# Altium footprint library Connectors.PcbLib: 22 footprints (part 1 of 2)
Each footprint in its own frame and in the unit in brackets; x right, y up, seen from the top. Pads: shape width x height; smd on the part's side, far side on the other; paste and mask are expansions set on the pad; w line width, h text height; cw(c..) or ccw(c..) is an arc to the next point about the centre after c.
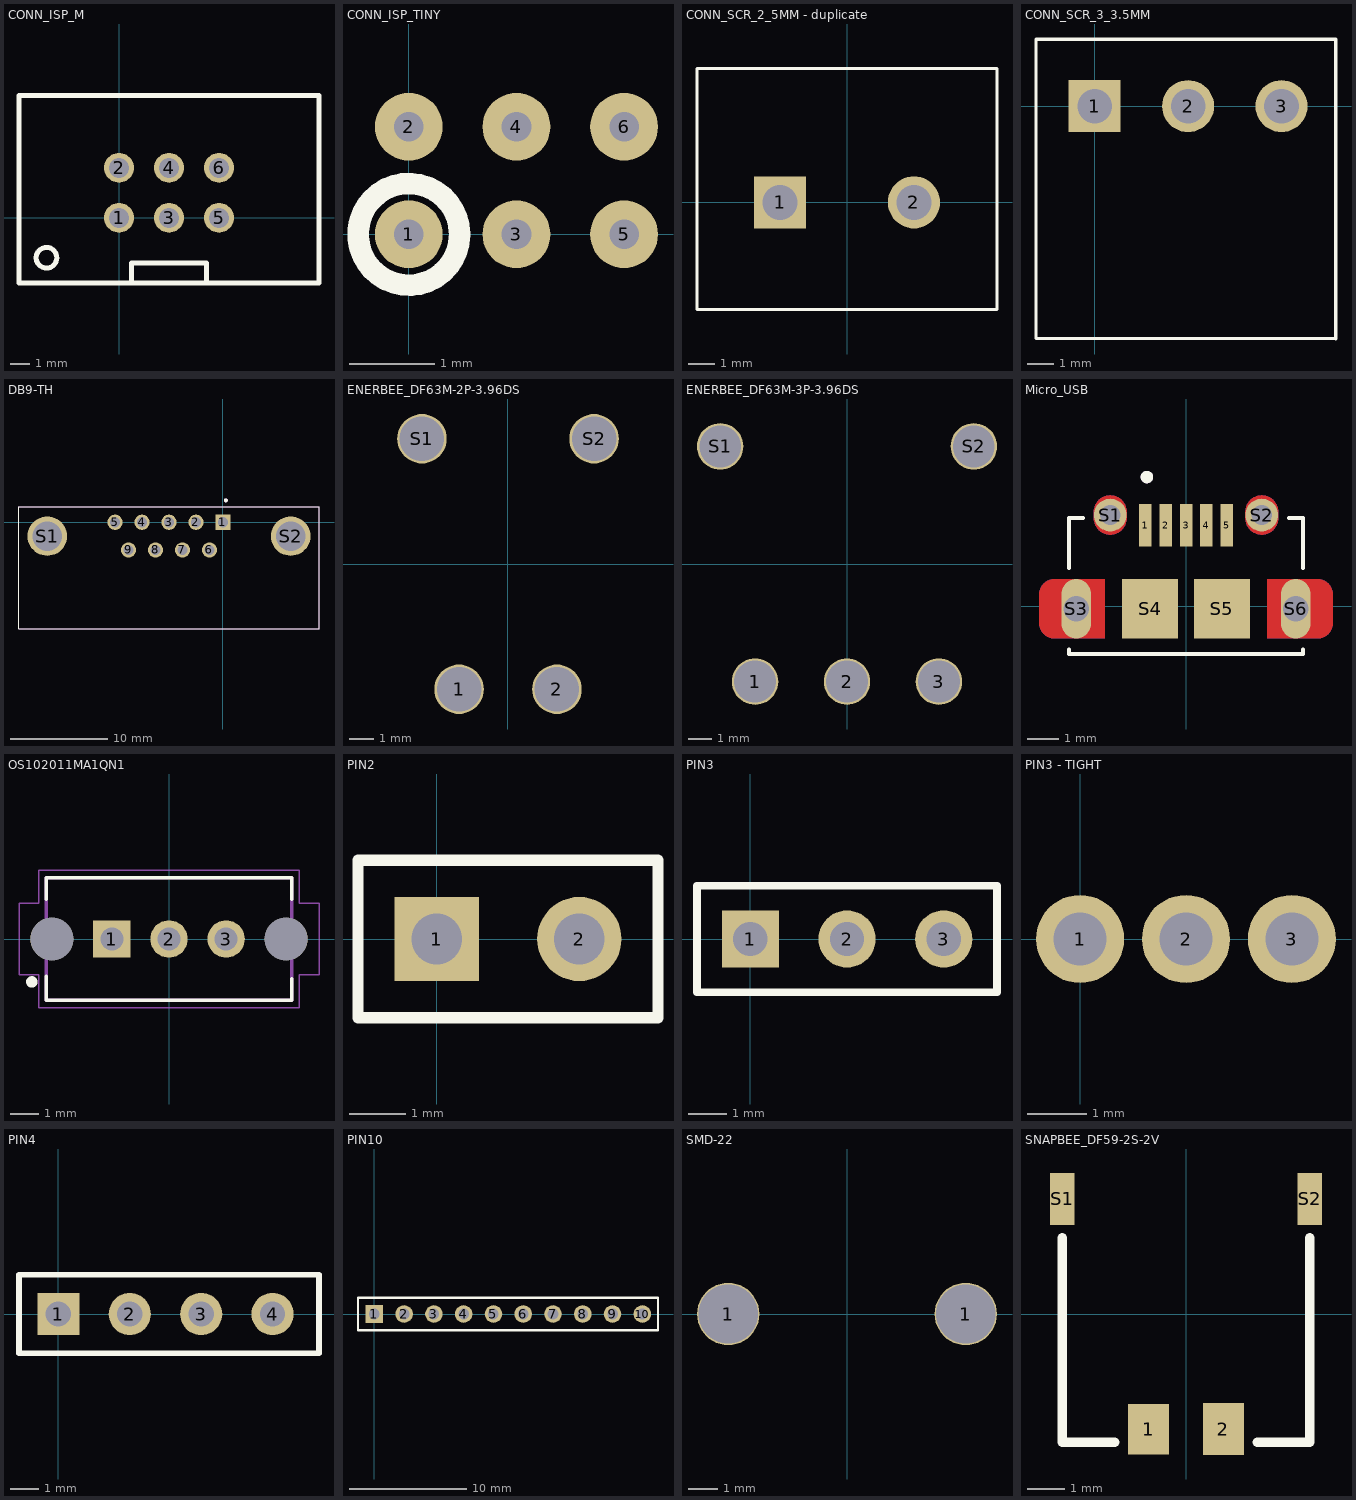
[diagram p0: the footprints below, top view; thin cyan lines are the x and y axes]

## CONN_ISP_M [mil]
pads (6):
  round 60 hole 40 mask+0: 1(0,0) 2(0,100) 3(100,0) 4(100,100) 5(200,0) 6(200,100)
Top Overlay:
  circle w10: c-145,-80 r20.62
  lines w10: 25,-125 25,-90 175,-90 175,-130 ; -200,-130 400,-130 400,245 -200,245 -200,-130
3D body "CONN_IDC-6PIN.step": height 358.77, standoff -121.55, extent -199.99,-126.17 400.01,245.88

## CONN_ISP_TINY [mm]
pads (6):
  round 0.8 hole 0.35 mask+0: 1(0,0) 2(0,1.27) 3(1.27,0) 4(1.27,1.27) 5(2.54,0) 6(2.54,1.27)
Top Overlay:
  circle w0.254: c0,0 r0.6
Bottom Overlay:
  circle w0.254: c0,0 r0.6

## CONN_SCR_2_5MM - duplicate [mm]
pads (2):
  rect 1.95x1.95 hole 1.3: 1(-2.5,0)
  round 1.95 hole 1.3: 2(2.5,0)
Top Overlay:
  lines w0.127: -5.6,-4 -5.6,5 5.6,5 5.6,-4 -5.6,-4
3D body "CONN_SCR_2_5MM.step": height 14.11, standoff -3.49, extent -5.15,-4.866 5.15,5.334

## CONN_SCR_3_3.5MM [mm]
pads (3):
  rect 1.95x1.95 hole 1.3: 1(0,0)
  round 1.95 hole 1.3: 2(3.5,0) 3(7,0)
Top Overlay:
  lines w0.127: -2.2,-8.7 -2.2,2.5 9.029,2.5 ; -2.188,-8.707 9.041,-8.707 ; 9.029,-8.709 9.029,2.491

## DB9-TH [mm]
pads (11):
  rect 1.575x1.575 hole 1.05: 1(0,0)
  round 1.575 hole 1.05: 2(-2.77,0) 3(-5.54,0) 4(-8.31,0) 5(-11.08,0) 6(-1.385,-2.84) 7(-4.155,-2.84) 8(-6.925,-2.84) 9(-9.695,-2.84)
  round 4.066 hole 3.05: S1(-18.035,-1.42) S2(6.955,-1.42)
Top Overlay:
  circle w0.2: c0.3,2.25 r0.1
  lines w0.127: -20.945,-10.92 9.865,-10.92 9.865,1.58 -20.945,1.58 -20.945,-10.92
Mechanical 13:
  circle w0.2: c0.3,2.25 r0.1
  circle w0.2: c0.3,2.25 r0.1
  lines w0.127: -20.945,-10.92 9.865,-10.92 ; -20.945,-10.92 9.865,-10.92 ; -20.945,-10.92 -20.945,1.58 ; -20.945,-10.92 -20.945,1.58 ; -20.945,1.58 9.865,1.58 ; -20.945,1.58 9.865,1.58 ; 9.865,-10.92 9.865,1.58 ; 9.865,-10.92 9.865,1.58
3D body "DB9.STEP": height 12.41, standoff -3.99, extent -20.787,-16.007 9.713,1.693

## ENERBEE_DF63M-2P-3.96DS [mm] "CONN HEADER R/A 2POS 3.96MM"
pads (4):
  round 2 hole 1.8: 1(-1.98,-5.065) S1(-3.48,5.065) S2(3.48,5.065)
  round 2 / inner round 1.524 / far side round 1.524 hole 1.8: 2(1.98,-5.065)
3D body "DF63M-2P-3.96DS.stp": height 9, standoff -3.5, extent -4.33,-6.592 4.33,7.608

## ENERBEE_DF63M-3P-3.96DS [mm] "CONN HEADER R/A 3POS 3.96MM"
pads (5):
  round 2 hole 1.8: 1(-3.96,-5.065) S1(-5.46,5.065) S2(5.46,5.065)
  round 2 / inner round 1.524 / far side round 1.524 hole 1.8: 2(0,-5.065) 3(3.96,-5.065)
3D body "DF63M-3P-3.96DS.stp": height 9, standoff -3.5, extent -6.31,-6.592 6.31,7.608

## Micro_USB [mm]
pads (11):
  rect 0.4x1.35 smd mask+0.051: 1(-1.3,2.6) 2(-0.65,2.6) 3(0,2.6) 4(0.65,2.6) 5(1.3,2.6)
  round 1.05 hole 0.65: S1(-2.425,2.925) S2(2.425,2.925)
  oval 0.95x1.9 hole 0.825: S3(-3.512,-0.075) S6(3.512,-0.075)
  rect 1.8x1.9 smd: S4(-1.15,-0.075) S5(1.15,-0.075)
Top Layer:
  region: -2.425,3.35 -2.425,3.55 -2.411,3.55 -2.384,3.549 -2.356,3.546 -2.329,3.541 -2.302,3.536 -2.276,3.529 -2.25,3.52 -2.224,3.51 -2.199,3.499 -2.174,3.487 -2.151,3.473 -2.128,3.458 -2.105,3.442 -2.084,3.424 -2.063,3.406 -2.044,3.387 -2.026,3.366 -2.008,3.345 -1.992,3.322 -1.977,3.299 -1.963,3.276 -1.951,3.251 -1.94,3.226 -1.93,3.2 -1.921,3.174 -1.914,3.148 -1.909,3.121 -1.904,3.094 -1.901,3.066 -1.9,3.039 -1.9,3.025 -1.9,2.825 -1.9,2.811 -1.901,2.784 -1.904,2.756 -1.909,2.729 -1.914,2.702 -1.921,2.676 -1.93,2.65 -1.94,2.624 -1.951,2.599 -1.963,2.574 -1.977,2.551 -1.992,2.528 -2.008,2.505 -2.026,2.484 -2.044,2.463 -2.063,2.444 -2.084,2.426 -2.105,2.408 -2.128,2.392 -2.151,2.377 -2.174,2.363 -2.199,2.351 -2.224,2.34 -2.25,2.33 -2.276,2.321 -2.302,2.314 -2.329,2.309 -2.356,2.304 -2.384,2.301 -2.411,2.3 -2.425,2.3 -2.425,2.5 -2.416,2.5 -2.399,2.501 -2.383,2.503 -2.366,2.505 -2.349,2.509 -2.333,2.513 -2.316,2.519 -2.301,2.525 -2.285,2.532 -2.27,2.539 -2.255,2.548 -2.241,2.557 -2.227,2.567 -2.214,2.578 -2.201,2.589 -2.189,2.601 -2.178,2.614 -2.167,2.627 -2.157,2.641 -2.148,2.655 -2.139,2.67 -2.132,2.685 -2.125,2.701 -2.119,2.716 -2.113,2.733 -2.109,2.749 -2.105,2.766 -2.103,2.783 -2.101,2.799 -2.1,2.816 -2.1,2.825 -2.1,3.025 -2.1,3.034 -2.101,3.051 -2.103,3.067 -2.105,3.084 -2.109,3.101 -2.113,3.117 -2.119,3.134 -2.125,3.149 -2.132,3.165 -2.139,3.18 -2.148,3.195 -2.157,3.209 -2.167,3.223 -2.178,3.236 -2.189,3.249 -2.201,3.261 -2.214,3.272 -2.227,3.283 -2.241,3.293 -2.255,3.302 -2.27,3.311 -2.285,3.318 -2.301,3.325 -2.316,3.331 -2.333,3.337 -2.349,3.341 -2.366,3.345 -2.383,3.347 -2.399,3.349 -2.416,3.35
  region: -2.425,2.5 -2.425,2.3 -2.439,2.3 -2.466,2.301 -2.494,2.304 -2.521,2.309 -2.548,2.314 -2.574,2.321 -2.6,2.33 -2.626,2.34 -2.651,2.351 -2.676,2.363 -2.699,2.377 -2.722,2.392 -2.745,2.408 -2.766,2.426 -2.787,2.444 -2.806,2.463 -2.824,2.484 -2.842,2.505 -2.858,2.528 -2.873,2.551 -2.887,2.574 -2.899,2.599 -2.91,2.624 -2.92,2.65 -2.929,2.676 -2.936,2.702 -2.941,2.729 -2.946,2.756 -2.949,2.784 -2.95,2.811 -2.95,2.825 -2.95,3.025 -2.95,3.039 -2.949,3.066 -2.946,3.094 -2.941,3.121 -2.936,3.148 -2.929,3.174 -2.92,3.2 -2.91,3.226 -2.899,3.251 -2.887,3.276 -2.873,3.299 -2.858,3.322 -2.842,3.345 -2.824,3.366 -2.806,3.387 -2.787,3.406 -2.766,3.424 -2.745,3.442 -2.722,3.458 -2.699,3.473 -2.676,3.487 -2.651,3.499 -2.626,3.51 -2.6,3.52 -2.574,3.529 -2.548,3.536 -2.521,3.541 -2.494,3.546 -2.466,3.549 -2.439,3.55 -2.425,3.55 -2.425,3.35 -2.434,3.35 -2.451,3.349 -2.467,3.347 -2.484,3.345 -2.501,3.341 -2.517,3.337 -2.534,3.331 -2.549,3.325 -2.565,3.318 -2.58,3.311 -2.595,3.302 -2.609,3.293 -2.623,3.283 -2.636,3.272 -2.649,3.261 -2.661,3.249 -2.672,3.236 -2.683,3.223 -2.693,3.209 -2.702,3.195 -2.711,3.18 -2.718,3.165 -2.725,3.149 -2.731,3.134 -2.737,3.117 -2.741,3.101 -2.745,3.084 -2.747,3.067 -2.749,3.051 -2.75,3.034 -2.75,3.025 -2.75,2.825 -2.75,2.816 -2.749,2.799 -2.747,2.783 -2.745,2.766 -2.741,2.749 -2.737,2.733 -2.731,2.716 -2.725,2.701 -2.718,2.685 -2.711,2.67 -2.702,2.655 -2.693,2.641 -2.683,2.627 -2.672,2.614 -2.661,2.601 -2.649,2.589 -2.636,2.578 -2.623,2.567 -2.609,2.557 -2.595,2.548 -2.58,2.539 -2.565,2.532 -2.549,2.525 -2.534,2.519 -2.517,2.513 -2.501,2.509 -2.484,2.505 -2.467,2.503 -2.451,2.501 -2.434,2.5
  region: 2.425,3.35 2.425,3.55 2.439,3.55 2.466,3.549 2.494,3.546 2.521,3.541 2.548,3.536 2.574,3.529 2.6,3.52 2.626,3.51 2.651,3.499 2.676,3.487 2.699,3.473 2.722,3.458 2.745,3.442 2.766,3.424 2.787,3.406 2.806,3.387 2.824,3.366 2.842,3.345 2.858,3.322 2.873,3.299 2.887,3.276 2.899,3.251 2.91,3.226 2.92,3.2 2.929,3.174 2.936,3.148 2.941,3.121 2.946,3.094 2.949,3.066 2.95,3.039 2.95,3.025 2.95,2.825 2.95,2.811 2.949,2.784 2.946,2.756 2.941,2.729 2.936,2.702 2.929,2.676 2.92,2.65 2.91,2.624 2.899,2.599 2.887,2.574 2.873,2.551 2.858,2.528 2.842,2.505 2.824,2.484 2.806,2.463 2.787,2.444 2.766,2.426 2.745,2.408 2.722,2.392 2.699,2.377 2.676,2.363 2.651,2.351 2.626,2.34 2.6,2.33 2.574,2.321 2.548,2.314 2.521,2.309 2.494,2.304 2.466,2.301 2.439,2.3 2.425,2.3 2.425,2.5 2.434,2.5 2.451,2.501 2.467,2.503 2.484,2.505 2.501,2.509 2.517,2.513 2.534,2.519 2.549,2.525 2.565,2.532 2.58,2.539 2.595,2.548 2.609,2.557 2.623,2.567 2.636,2.578 2.649,2.589 2.661,2.601 2.672,2.614 2.683,2.627 2.693,2.641 2.702,2.655 2.711,2.67 2.718,2.685 2.725,2.701 2.731,2.716 2.737,2.733 2.741,2.749 2.745,2.766 2.747,2.783 2.749,2.799 2.75,2.816 2.75,2.825 2.75,3.025 2.75,3.034 2.749,3.051 2.747,3.067 2.745,3.084 2.741,3.101 2.737,3.117 2.731,3.134 2.725,3.149 2.718,3.165 2.711,3.18 2.702,3.195 2.693,3.209 2.683,3.223 2.672,3.236 2.661,3.249 2.649,3.261 2.636,3.272 2.623,3.283 2.609,3.293 2.595,3.302 2.58,3.311 2.565,3.318 2.549,3.325 2.534,3.331 2.517,3.337 2.501,3.341 2.484,3.345 2.467,3.347 2.451,3.349 2.434,3.35
  region: 2.425,2.5 2.425,2.3 2.411,2.3 2.384,2.301 2.356,2.304 2.329,2.309 2.302,2.314 2.276,2.321 2.25,2.33 2.224,2.34 2.199,2.351 2.174,2.363 2.151,2.377 2.128,2.392 2.105,2.408 2.084,2.426 2.063,2.444 2.044,2.463 2.026,2.484 2.008,2.505 1.992,2.528 1.977,2.551 1.963,2.574 1.951,2.599 1.94,2.624 1.93,2.65 1.921,2.676 1.914,2.702 1.909,2.729 1.904,2.756 1.901,2.784 1.9,2.811 1.9,2.825 1.9,3.025 1.9,3.039 1.901,3.066 1.904,3.094 1.909,3.121 1.914,3.148 1.921,3.174 1.93,3.2 1.94,3.226 1.951,3.251 1.963,3.276 1.977,3.299 1.992,3.322 2.008,3.345 2.026,3.366 2.044,3.387 2.063,3.406 2.084,3.424 2.105,3.442 2.128,3.458 2.151,3.473 2.174,3.487 2.199,3.499 2.224,3.51 2.25,3.52 2.276,3.529 2.302,3.536 2.329,3.541 2.356,3.546 2.384,3.549 2.411,3.55 2.425,3.55 2.425,3.35 2.416,3.35 2.399,3.349 2.383,3.347 2.366,3.345 2.349,3.341 2.333,3.337 2.316,3.331 2.301,3.325 2.285,3.318 2.27,3.311 2.255,3.302 2.241,3.293 2.227,3.283 2.214,3.272 2.201,3.261 2.189,3.249 2.178,3.236 2.167,3.223 2.157,3.209 2.148,3.195 2.139,3.18 2.132,3.165 2.125,3.149 2.119,3.134 2.113,3.117 2.109,3.101 2.105,3.084 2.103,3.067 2.101,3.051 2.1,3.034 2.1,3.025 2.1,2.825 2.1,2.816 2.101,2.799 2.103,2.783 2.105,2.766 2.109,2.749 2.113,2.733 2.119,2.716 2.125,2.701 2.132,2.685 2.139,2.67 2.148,2.655 2.157,2.641 2.167,2.627 2.178,2.614 2.189,2.601 2.201,2.589 2.214,2.578 2.227,2.567 2.241,2.557 2.255,2.548 2.27,2.539 2.285,2.532 2.301,2.525 2.316,2.519 2.333,2.513 2.349,2.509 2.366,2.505 2.383,2.503 2.399,2.501 2.416,2.5
  region: -2.6,0.875 -4.2,0.875 -4.213,0.875 -4.239,0.874 -4.265,0.871 -4.291,0.867 -4.317,0.861 -4.342,0.855 -4.367,0.846 -4.391,0.837 -4.415,0.826 -4.439,0.815 -4.461,0.801 -4.483,0.787 -4.504,0.772 -4.525,0.755 -4.544,0.738 -4.563,0.719 -4.58,0.7 -4.597,0.679 -4.612,0.658 -4.626,0.636 -4.64,0.614 -4.651,0.59 -4.662,0.566 -4.671,0.542 -4.68,0.517 -4.686,0.492 -4.692,0.466 -4.696,0.44 -4.699,0.414 -4.7,0.388 -4.7,0.375 -4.7,-0.075 -3.925,-0.075 -3.925,0.375 -3.925,0.383 -3.924,0.399 -3.923,0.414 -3.92,0.43 -3.917,0.445 -3.913,0.46 -3.908,0.475 -3.902,0.49 -3.896,0.504 -3.889,0.518 -3.881,0.532 -3.872,0.545 -3.863,0.558 -3.853,0.57 -3.843,0.582 -3.832,0.593 -3.82,0.603 -3.808,0.613 -3.795,0.622 -3.782,0.631 -3.768,0.639 -3.754,0.646 -3.74,0.652 -3.725,0.658 -3.71,0.663 -3.695,0.667 -3.68,0.67 -3.664,0.673 -3.649,0.674 -3.633,0.675 -3.625,0.675 -3.4,0.675 -3.392,0.675 -3.376,0.674 -3.361,0.673 -3.345,0.67 -3.33,0.667 -3.315,0.663 -3.3,0.658 -3.285,0.652 -3.271,0.646 -3.257,0.639 -3.243,0.631 -3.23,0.622 -3.217,0.613 -3.205,0.603 -3.193,0.593 -3.182,0.582 -3.172,0.57 -3.162,0.558 -3.153,0.545 -3.144,0.532 -3.136,0.518 -3.129,0.504 -3.123,0.49 -3.117,0.475 -3.112,0.46 -3.108,0.445 -3.105,0.43 -3.102,0.414 -3.101,0.399 -3.1,0.383 -3.1,0.375 -3.1,-0.075 -2.6,-0.075
  region: 2.6,-1.025 4.2,-1.025 4.213,-1.025 4.239,-1.024 4.265,-1.021 4.291,-1.017 4.317,-1.011 4.342,-1.005 4.367,-0.996 4.391,-0.987 4.415,-0.976 4.439,-0.965 4.461,-0.951 4.483,-0.937 4.504,-0.922 4.525,-0.905 4.544,-0.888 4.563,-0.869 4.58,-0.85 4.597,-0.829 4.612,-0.808 4.626,-0.786 4.64,-0.764 4.651,-0.74 4.662,-0.716 4.671,-0.692 4.68,-0.667 4.686,-0.642 4.692,-0.616 4.696,-0.59 4.699,-0.564 4.7,-0.538 4.7,-0.525 4.7,-0.075 3.925,-0.075 3.925,-0.525 3.925,-0.533 3.924,-0.549 3.923,-0.564 3.92,-0.58 3.917,-0.595 3.913,-0.61 3.908,-0.625 3.902,-0.64 3.896,-0.654 3.889,-0.668 3.881,-0.682 3.872,-0.695 3.863,-0.708 3.853,-0.72 3.843,-0.732 3.832,-0.743 3.82,-0.753 3.808,-0.763 3.795,-0.772 3.782,-0.781 3.768,-0.789 3.754,-0.796 3.74,-0.802 3.725,-0.808 3.71,-0.813 3.695,-0.817 3.68,-0.82 3.664,-0.823 3.649,-0.824 3.633,-0.825 3.625,-0.825 3.4,-0.825 3.392,-0.825 3.376,-0.824 3.361,-0.823 3.345,-0.82 3.33,-0.817 3.315,-0.813 3.3,-0.808 3.285,-0.802 3.271,-0.796 3.257,-0.789 3.243,-0.781 3.23,-0.772 3.217,-0.763 3.205,-0.753 3.193,-0.743 3.182,-0.732 3.172,-0.72 3.162,-0.708 3.153,-0.695 3.144,-0.682 3.136,-0.668 3.129,-0.654 3.123,-0.64 3.117,-0.625 3.112,-0.61 3.108,-0.595 3.105,-0.58 3.102,-0.564 3.101,-0.549 3.1,-0.533 3.1,-0.525 3.1,-0.075 2.6,-0.075
  region: -3.1,-0.075 -2.6,-0.075 -2.6,-1.025 -4.2,-1.025 -4.213,-1.025 -4.239,-1.024 -4.265,-1.021 -4.291,-1.017 -4.317,-1.011 -4.342,-1.005 -4.367,-0.996 -4.391,-0.987 -4.415,-0.976 -4.439,-0.965 -4.461,-0.951 -4.483,-0.937 -4.504,-0.922 -4.525,-0.905 -4.544,-0.888 -4.563,-0.869 -4.58,-0.85 -4.597,-0.829 -4.612,-0.808 -4.626,-0.786 -4.64,-0.764 -4.651,-0.74 -4.662,-0.716 -4.671,-0.692 -4.68,-0.667 -4.686,-0.642 -4.692,-0.616 -4.696,-0.59 -4.699,-0.564 -4.7,-0.538 -4.7,-0.525 -4.7,-0.075 -3.925,-0.075 -3.925,-0.55 -3.925,-0.557 -3.924,-0.572 -3.923,-0.586 -3.92,-0.6 -3.917,-0.614 -3.914,-0.628 -3.909,-0.642 -3.904,-0.655 -3.898,-0.668 -3.892,-0.681 -3.885,-0.694 -3.877,-0.706 -3.868,-0.717 -3.859,-0.729 -3.85,-0.739 -3.839,-0.75 -3.829,-0.759 -3.817,-0.768 -3.806,-0.777 -3.794,-0.785 -3.781,-0.792 -3.768,-0.798 -3.755,-0.804 -3.742,-0.809 -3.728,-0.814 -3.714,-0.817 -3.7,-0.82 -3.686,-0.823 -3.672,-0.824 -3.657,-0.825 -3.65,-0.825 -3.4,-0.825 -3.392,-0.825 -3.376,-0.824 -3.361,-0.823 -3.345,-0.82 -3.33,-0.817 -3.315,-0.813 -3.3,-0.808 -3.285,-0.802 -3.271,-0.796 -3.257,-0.789 -3.243,-0.781 -3.23,-0.772 -3.217,-0.763 -3.205,-0.753 -3.193,-0.743 -3.182,-0.732 -3.172,-0.72 -3.162,-0.708 -3.153,-0.695 -3.144,-0.682 -3.136,-0.668 -3.129,-0.654 -3.123,-0.64 -3.117,-0.625 -3.112,-0.61 -3.108,-0.595 -3.105,-0.58 -3.102,-0.564 -3.101,-0.549 -3.1,-0.533 -3.1,-0.525
  region: 3.1,-0.075 2.6,-0.075 2.6,0.875 4.2,0.875 4.213,0.875 4.239,0.874 4.265,0.871 4.291,0.867 4.317,0.861 4.342,0.855 4.367,0.846 4.391,0.837 4.415,0.826 4.439,0.815 4.461,0.801 4.483,0.787 4.504,0.772 4.525,0.755 4.544,0.738 4.563,0.719 4.58,0.7 4.597,0.679 4.612,0.658 4.626,0.636 4.64,0.614 4.651,0.59 4.662,0.566 4.671,0.542 4.68,0.517 4.686,0.492 4.692,0.466 4.696,0.44 4.699,0.414 4.7,0.388 4.7,0.375 4.7,-0.075 3.925,-0.075 3.925,0.4 3.925,0.407 3.924,0.422 3.923,0.436 3.92,0.45 3.917,0.464 3.914,0.478 3.909,0.492 3.904,0.505 3.898,0.518 3.892,0.531 3.885,0.544 3.877,0.556 3.868,0.567 3.859,0.579 3.85,0.589 3.839,0.6 3.829,0.609 3.817,0.618 3.806,0.627 3.794,0.635 3.781,0.642 3.768,0.648 3.755,0.654 3.742,0.659 3.728,0.664 3.714,0.667 3.7,0.67 3.686,0.673 3.672,0.674 3.657,0.675 3.65,0.675 3.4,0.675 3.392,0.675 3.376,0.674 3.361,0.673 3.345,0.67 3.33,0.667 3.315,0.663 3.3,0.658 3.285,0.652 3.271,0.646 3.257,0.639 3.243,0.631 3.23,0.622 3.217,0.613 3.205,0.603 3.193,0.593 3.182,0.582 3.172,0.57 3.162,0.558 3.153,0.545 3.144,0.532 3.136,0.518 3.129,0.504 3.123,0.49 3.117,0.475 3.112,0.46 3.108,0.445 3.105,0.43 3.102,0.414 3.101,0.399 3.1,0.383 3.1,0.375
Bottom Layer:
  region: -2.425,3.35 -2.425,3.55 -2.411,3.55 -2.384,3.549 -2.356,3.546 -2.329,3.541 -2.302,3.536 -2.276,3.529 -2.25,3.52 -2.224,3.51 -2.199,3.499 -2.174,3.487 -2.151,3.473 -2.128,3.458 -2.105,3.442 -2.084,3.424 -2.063,3.406 -2.044,3.387 -2.026,3.366 -2.008,3.345 -1.992,3.322 -1.977,3.299 -1.963,3.276 -1.951,3.251 -1.94,3.226 -1.93,3.2 -1.921,3.174 -1.914,3.148 -1.909,3.121 -1.904,3.094 -1.901,3.066 -1.9,3.039 -1.9,3.025 -1.9,2.825 -1.9,2.811 -1.901,2.784 -1.904,2.756 -1.909,2.729 -1.914,2.702 -1.921,2.676 -1.93,2.65 -1.94,2.624 -1.951,2.599 -1.963,2.574 -1.977,2.551 -1.992,2.528 -2.008,2.505 -2.026,2.484 -2.044,2.463 -2.063,2.444 -2.084,2.426 -2.105,2.408 -2.128,2.392 -2.151,2.377 -2.174,2.363 -2.199,2.351 -2.224,2.34 -2.25,2.33 -2.276,2.321 -2.302,2.314 -2.329,2.309 -2.356,2.304 -2.384,2.301 -2.411,2.3 -2.425,2.3 -2.425,2.5 -2.416,2.5 -2.399,2.501 -2.383,2.503 -2.366,2.505 -2.349,2.509 -2.333,2.513 -2.316,2.519 -2.301,2.525 -2.285,2.532 -2.27,2.539 -2.255,2.548 -2.241,2.557 -2.227,2.567 -2.214,2.578 -2.201,2.589 -2.189,2.601 -2.178,2.614 -2.167,2.627 -2.157,2.641 -2.148,2.655 -2.139,2.67 -2.132,2.685 -2.125,2.701 -2.119,2.716 -2.113,2.733 -2.109,2.749 -2.105,2.766 -2.103,2.783 -2.101,2.799 -2.1,2.816 -2.1,2.825 -2.1,3.025 -2.1,3.034 -2.101,3.051 -2.103,3.067 -2.105,3.084 -2.109,3.101 -2.113,3.117 -2.119,3.134 -2.125,3.149 -2.132,3.165 -2.139,3.18 -2.148,3.195 -2.157,3.209 -2.167,3.223 -2.178,3.236 -2.189,3.249 -2.201,3.261 -2.214,3.272 -2.227,3.283 -2.241,3.293 -2.255,3.302 -2.27,3.311 -2.285,3.318 -2.301,3.325 -2.316,3.331 -2.333,3.337 -2.349,3.341 -2.366,3.345 -2.383,3.347 -2.399,3.349 -2.416,3.35
  region: -2.425,2.5 -2.425,2.3 -2.439,2.3 -2.466,2.301 -2.494,2.304 -2.521,2.309 -2.548,2.314 -2.574,2.321 -2.6,2.33 -2.626,2.34 -2.651,2.351 -2.676,2.363 -2.699,2.377 -2.722,2.392 -2.745,2.408 -2.766,2.426 -2.787,2.444 -2.806,2.463 -2.824,2.484 -2.842,2.505 -2.858,2.528 -2.873,2.551 -2.887,2.574 -2.899,2.599 -2.91,2.624 -2.92,2.65 -2.929,2.676 -2.936,2.702 -2.941,2.729 -2.946,2.756 -2.949,2.784 -2.95,2.811 -2.95,2.825 -2.95,3.025 -2.95,3.039 -2.949,3.066 -2.946,3.094 -2.941,3.121 -2.936,3.148 -2.929,3.174 -2.92,3.2 -2.91,3.226 -2.899,3.251 -2.887,3.276 -2.873,3.299 -2.858,3.322 -2.842,3.345 -2.824,3.366 -2.806,3.387 -2.787,3.406 -2.766,3.424 -2.745,3.442 -2.722,3.458 -2.699,3.473 -2.676,3.487 -2.651,3.499 -2.626,3.51 -2.6,3.52 -2.574,3.529 -2.548,3.536 -2.521,3.541 -2.494,3.546 -2.466,3.549 -2.439,3.55 -2.425,3.55 -2.425,3.35 -2.434,3.35 -2.451,3.349 -2.467,3.347 -2.484,3.345 -2.501,3.341 -2.517,3.337 -2.534,3.331 -2.549,3.325 -2.565,3.318 -2.58,3.311 -2.595,3.302 -2.609,3.293 -2.623,3.283 -2.636,3.272 -2.649,3.261 -2.661,3.249 -2.672,3.236 -2.683,3.223 -2.693,3.209 -2.702,3.195 -2.711,3.18 -2.718,3.165 -2.725,3.149 -2.731,3.134 -2.737,3.117 -2.741,3.101 -2.745,3.084 -2.747,3.067 -2.749,3.051 -2.75,3.034 -2.75,3.025 -2.75,2.825 -2.75,2.816 -2.749,2.799 -2.747,2.783 -2.745,2.766 -2.741,2.749 -2.737,2.733 -2.731,2.716 -2.725,2.701 -2.718,2.685 -2.711,2.67 -2.702,2.655 -2.693,2.641 -2.683,2.627 -2.672,2.614 -2.661,2.601 -2.649,2.589 -2.636,2.578 -2.623,2.567 -2.609,2.557 -2.595,2.548 -2.58,2.539 -2.565,2.532 -2.549,2.525 -2.534,2.519 -2.517,2.513 -2.501,2.509 -2.484,2.505 -2.467,2.503 -2.451,2.501 -2.434,2.5
  region: 2.425,3.35 2.425,3.55 2.439,3.55 2.466,3.549 2.494,3.546 2.521,3.541 2.548,3.536 2.574,3.529 2.6,3.52 2.626,3.51 2.651,3.499 2.676,3.487 2.699,3.473 2.722,3.458 2.745,3.442 2.766,3.424 2.787,3.406 2.806,3.387 2.824,3.366 2.842,3.345 2.858,3.322 2.873,3.299 2.887,3.276 2.899,3.251 2.91,3.226 2.92,3.2 2.929,3.174 2.936,3.148 2.941,3.121 2.946,3.094 2.949,3.066 2.95,3.039 2.95,3.025 2.95,2.825 2.95,2.811 2.949,2.784 2.946,2.756 2.941,2.729 2.936,2.702 2.929,2.676 2.92,2.65 2.91,2.624 2.899,2.599 2.887,2.574 2.873,2.551 2.858,2.528 2.842,2.505 2.824,2.484 2.806,2.463 2.787,2.444 2.766,2.426 2.745,2.408 2.722,2.392 2.699,2.377 2.676,2.363 2.651,2.351 2.626,2.34 2.6,2.33 2.574,2.321 2.548,2.314 2.521,2.309 2.494,2.304 2.466,2.301 2.439,2.3 2.425,2.3 2.425,2.5 2.434,2.5 2.451,2.501 2.467,2.503 2.484,2.505 2.501,2.509 2.517,2.513 2.534,2.519 2.549,2.525 2.565,2.532 2.58,2.539 2.595,2.548 2.609,2.557 2.623,2.567 2.636,2.578 2.649,2.589 2.661,2.601 2.672,2.614 2.683,2.627 2.693,2.641 2.702,2.655 2.711,2.67 2.718,2.685 2.725,2.701 2.731,2.716 2.737,2.733 2.741,2.749 2.745,2.766 2.747,2.783 2.749,2.799 2.75,2.816 2.75,2.825 2.75,3.025 2.75,3.034 2.749,3.051 2.747,3.067 2.745,3.084 2.741,3.101 2.737,3.117 2.731,3.134 2.725,3.149 2.718,3.165 2.711,3.18 2.702,3.195 2.693,3.209 2.683,3.223 2.672,3.236 2.661,3.249 2.649,3.261 2.636,3.272 2.623,3.283 2.609,3.293 2.595,3.302 2.58,3.311 2.565,3.318 2.549,3.325 2.534,3.331 2.517,3.337 2.501,3.341 2.484,3.345 2.467,3.347 2.451,3.349 2.434,3.35
  region: 2.425,2.5 2.425,2.3 2.411,2.3 2.384,2.301 2.356,2.304 2.329,2.309 2.302,2.314 2.276,2.321 2.25,2.33 2.224,2.34 2.199,2.351 2.174,2.363 2.151,2.377 2.128,2.392 2.105,2.408 2.084,2.426 2.063,2.444 2.044,2.463 2.026,2.484 2.008,2.505 1.992,2.528 1.977,2.551 1.963,2.574 1.951,2.599 1.94,2.624 1.93,2.65 1.921,2.676 1.914,2.702 1.909,2.729 1.904,2.756 1.901,2.784 1.9,2.811 1.9,2.825 1.9,3.025 1.9,3.039 1.901,3.066 1.904,3.094 1.909,3.121 1.914,3.148 1.921,3.174 1.93,3.2 1.94,3.226 1.951,3.251 1.963,3.276 1.977,3.299 1.992,3.322 2.008,3.345 2.026,3.366 2.044,3.387 2.063,3.406 2.084,3.424 2.105,3.442 2.128,3.458 2.151,3.473 2.174,3.487 2.199,3.499 2.224,3.51 2.25,3.52 2.276,3.529 2.302,3.536 2.329,3.541 2.356,3.546 2.384,3.549 2.411,3.55 2.425,3.55 2.425,3.35 2.416,3.35 2.399,3.349 2.383,3.347 2.366,3.345 2.349,3.341 2.333,3.337 2.316,3.331 2.301,3.325 2.285,3.318 2.27,3.311 2.255,3.302 2.241,3.293 2.227,3.283 2.214,3.272 2.201,3.261 2.189,3.249 2.178,3.236 2.167,3.223 2.157,3.209 2.148,3.195 2.139,3.18 2.132,3.165 2.125,3.149 2.119,3.134 2.113,3.117 2.109,3.101 2.105,3.084 2.103,3.067 2.101,3.051 2.1,3.034 2.1,3.025 2.1,2.825 2.1,2.816 2.101,2.799 2.103,2.783 2.105,2.766 2.109,2.749 2.113,2.733 2.119,2.716 2.125,2.701 2.132,2.685 2.139,2.67 2.148,2.655 2.157,2.641 2.167,2.627 2.178,2.614 2.189,2.601 2.201,2.589 2.214,2.578 2.227,2.567 2.241,2.557 2.255,2.548 2.27,2.539 2.285,2.532 2.301,2.525 2.316,2.519 2.333,2.513 2.349,2.509 2.366,2.505 2.383,2.503 2.399,2.501 2.416,2.5
  region: -2.6,0.875 -4.2,0.875 -4.213,0.875 -4.239,0.874 -4.265,0.871 -4.291,0.867 -4.317,0.861 -4.342,0.855 -4.367,0.846 -4.391,0.837 -4.415,0.826 -4.439,0.815 -4.461,0.801 -4.483,0.787 -4.504,0.772 -4.525,0.755 -4.544,0.738 -4.563,0.719 -4.58,0.7 -4.597,0.679 -4.612,0.658 -4.626,0.636 -4.64,0.614 -4.651,0.59 -4.662,0.566 -4.671,0.542 -4.68,0.517 -4.686,0.492 -4.692,0.466 -4.696,0.44 -4.699,0.414 -4.7,0.388 -4.7,0.375 -4.7,-0.075 -3.925,-0.075 -3.925,0.375 -3.925,0.383 -3.924,0.399 -3.923,0.414 -3.92,0.43 -3.917,0.445 -3.913,0.46 -3.908,0.475 -3.902,0.49 -3.896,0.504 -3.889,0.518 -3.881,0.532 -3.872,0.545 -3.863,0.558 -3.853,0.57 -3.843,0.582 -3.832,0.593 -3.82,0.603 -3.808,0.613 -3.795,0.622 -3.782,0.631 -3.768,0.639 -3.754,0.646 -3.74,0.652 -3.725,0.658 -3.71,0.663 -3.695,0.667 -3.68,0.67 -3.664,0.673 -3.649,0.674 -3.633,0.675 -3.625,0.675 -3.4,0.675 -3.392,0.675 -3.376,0.674 -3.361,0.673 -3.345,0.67 -3.33,0.667 -3.315,0.663 -3.3,0.658 -3.285,0.652 -3.271,0.646 -3.257,0.639 -3.243,0.631 -3.23,0.622 -3.217,0.613 -3.205,0.603 -3.193,0.593 -3.182,0.582 -3.172,0.57 -3.162,0.558 -3.153,0.545 -3.144,0.532 -3.136,0.518 -3.129,0.504 -3.123,0.49 -3.117,0.475 -3.112,0.46 -3.108,0.445 -3.105,0.43 -3.102,0.414 -3.101,0.399 -3.1,0.383 -3.1,0.375 -3.1,-0.075 -2.6,-0.075
  region: 2.6,-1.025 4.2,-1.025 4.213,-1.025 4.239,-1.024 4.265,-1.021 4.291,-1.017 4.317,-1.011 4.342,-1.005 4.367,-0.996 4.391,-0.987 4.415,-0.976 4.439,-0.965 4.461,-0.951 4.483,-0.937 4.504,-0.922 4.525,-0.905 4.544,-0.888 4.563,-0.869 4.58,-0.85 4.597,-0.829 4.612,-0.808 4.626,-0.786 4.64,-0.764 4.651,-0.74 4.662,-0.716 4.671,-0.692 4.68,-0.667 4.686,-0.642 4.692,-0.616 4.696,-0.59 4.699,-0.564 4.7,-0.538 4.7,-0.525 4.7,-0.075 3.925,-0.075 3.925,-0.525 3.925,-0.533 3.924,-0.549 3.923,-0.564 3.92,-0.58 3.917,-0.595 3.913,-0.61 3.908,-0.625 3.902,-0.64 3.896,-0.654 3.889,-0.668 3.881,-0.682 3.872,-0.695 3.863,-0.708 3.853,-0.72 3.843,-0.732 3.832,-0.743 3.82,-0.753 3.808,-0.763 3.795,-0.772 3.782,-0.781 3.768,-0.789 3.754,-0.796 3.74,-0.802 3.725,-0.808 3.71,-0.813 3.695,-0.817 3.68,-0.82 3.664,-0.823 3.649,-0.824 3.633,-0.825 3.625,-0.825 3.4,-0.825 3.392,-0.825 3.376,-0.824 3.361,-0.823 3.345,-0.82 3.33,-0.817 3.315,-0.813 3.3,-0.808 3.285,-0.802 3.271,-0.796 3.257,-0.789 3.243,-0.781 3.23,-0.772 3.217,-0.763 3.205,-0.753 3.193,-0.743 3.182,-0.732 3.172,-0.72 3.162,-0.708 3.153,-0.695 3.144,-0.682 3.136,-0.668 3.129,-0.654 3.123,-0.64 3.117,-0.625 3.112,-0.61 3.108,-0.595 3.105,-0.58 3.102,-0.564 3.101,-0.549 3.1,-0.533 3.1,-0.525 3.1,-0.075 2.6,-0.075
  region: -3.1,-0.075 -2.6,-0.075 -2.6,-1.025 -4.2,-1.025 -4.213,-1.025 -4.239,-1.024 -4.265,-1.021 -4.291,-1.017 -4.317,-1.011 -4.342,-1.005 -4.367,-0.996 -4.391,-0.987 -4.415,-0.976 -4.439,-0.965 -4.461,-0.951 -4.483,-0.937 -4.504,-0.922 -4.525,-0.905 -4.544,-0.888 -4.563,-0.869 -4.58,-0.85 -4.597,-0.829 -4.612,-0.808 -4.626,-0.786 -4.64,-0.764 -4.651,-0.74 -4.662,-0.716 -4.671,-0.692 -4.68,-0.667 -4.686,-0.642 -4.692,-0.616 -4.696,-0.59 -4.699,-0.564 -4.7,-0.538 -4.7,-0.525 -4.7,-0.075 -3.925,-0.075 -3.925,-0.55 -3.925,-0.557 -3.924,-0.572 -3.923,-0.586 -3.92,-0.6 -3.917,-0.614 -3.914,-0.628 -3.909,-0.642 -3.904,-0.655 -3.898,-0.668 -3.892,-0.681 -3.885,-0.694 -3.877,-0.706 -3.868,-0.717 -3.859,-0.729 -3.85,-0.739 -3.839,-0.75 -3.829,-0.759 -3.817,-0.768 -3.806,-0.777 -3.794,-0.785 -3.781,-0.792 -3.768,-0.798 -3.755,-0.804 -3.742,-0.809 -3.728,-0.814 -3.714,-0.817 -3.7,-0.82 -3.686,-0.823 -3.672,-0.824 -3.657,-0.825 -3.65,-0.825 -3.4,-0.825 -3.392,-0.825 -3.376,-0.824 -3.361,-0.823 -3.345,-0.82 -3.33,-0.817 -3.315,-0.813 -3.3,-0.808 -3.285,-0.802 -3.271,-0.796 -3.257,-0.789 -3.243,-0.781 -3.23,-0.772 -3.217,-0.763 -3.205,-0.753 -3.193,-0.743 -3.182,-0.732 -3.172,-0.72 -3.162,-0.708 -3.153,-0.695 -3.144,-0.682 -3.136,-0.668 -3.129,-0.654 -3.123,-0.64 -3.117,-0.625 -3.112,-0.61 -3.108,-0.595 -3.105,-0.58 -3.102,-0.564 -3.101,-0.549 -3.1,-0.533 -3.1,-0.525
  region: 3.1,-0.075 2.6,-0.075 2.6,0.875 4.2,0.875 4.213,0.875 4.239,0.874 4.265,0.871 4.291,0.867 4.317,0.861 4.342,0.855 4.367,0.846 4.391,0.837 4.415,0.826 4.439,0.815 4.461,0.801 4.483,0.787 4.504,0.772 4.525,0.755 4.544,0.738 4.563,0.719 4.58,0.7 4.597,0.679 4.612,0.658 4.626,0.636 4.64,0.614 4.651,0.59 4.662,0.566 4.671,0.542 4.68,0.517 4.686,0.492 4.692,0.466 4.696,0.44 4.699,0.414 4.7,0.388 4.7,0.375 4.7,-0.075 3.925,-0.075 3.925,0.4 3.925,0.407 3.924,0.422 3.923,0.436 3.92,0.45 3.917,0.464 3.914,0.478 3.909,0.492 3.904,0.505 3.898,0.518 3.892,0.531 3.885,0.544 3.877,0.556 3.868,0.567 3.859,0.579 3.85,0.589 3.839,0.6 3.829,0.609 3.817,0.618 3.806,0.627 3.794,0.635 3.781,0.642 3.768,0.648 3.755,0.654 3.742,0.659 3.728,0.664 3.714,0.667 3.7,0.67 3.686,0.673 3.672,0.674 3.657,0.675 3.65,0.675 3.4,0.675 3.392,0.675 3.376,0.674 3.361,0.673 3.345,0.67 3.33,0.667 3.315,0.663 3.3,0.658 3.285,0.652 3.271,0.646 3.257,0.639 3.243,0.631 3.23,0.622 3.217,0.613 3.205,0.603 3.193,0.593 3.182,0.582 3.172,0.57 3.162,0.558 3.153,0.545 3.144,0.532 3.136,0.518 3.129,0.504 3.123,0.49 3.117,0.475 3.112,0.46 3.108,0.445 3.105,0.43 3.102,0.414 3.101,0.399 3.1,0.383 3.1,0.375
Top Overlay:
  circle w0.2: c-1.25,4.14 r0.1
  lines w0.127: -3.75,-1.375 -3.75,-1.525 3.75,-1.525 3.75,-1.375 ; -3.75,1.225 -3.75,2.825 -3.3,2.825 ; 3.3,2.825 3.75,2.825 3.75,1.225
Top Paste:
  drawing of 8 lines, arcs and shapes, not listed
Bottom Paste:
  drawing of 8 lines, arcs and shapes, not listed
Top Solder:
  region: -3.051,3.65 -1.8,3.65 -1.8,2.2 -3.051,2.2
  region: 1.802,3.65 3.05,3.65 3.05,2.2 1.802,2.2
  region: -4.801,0.975 -2.5,0.975 -2.5,-1.126 -4.801,-1.126
  region: 2.502,0.975 4.8,0.975 4.8,-1.128 2.502,-1.128
Bottom Solder:
  region: -3.051,3.65 -1.8,3.65 -1.8,2.2 -3.051,2.2
  region: 1.802,3.65 3.05,3.65 3.05,2.2 1.802,2.2
  region: -4.801,0.975 -2.5,0.975 -2.5,-1.126 -4.801,-1.126
  region: 2.502,0.975 4.8,0.975 4.8,-1.128 2.502,-1.128
Mechanical 1:
  lines w0: -3.925,-0.525 ccw(c-3.625,-0.525) -3.625,-0.825 -3.4,-0.825 ccw(c-3.4,-0.525) -3.1,-0.525 -3.1,0.375 ccw(c-3.4,0.375) -3.4,0.675 -3.625,0.675 ccw(c-3.625,0.375) -3.925,0.375 -3.925,-0.525 ; -2.75,2.825 ccw(c-2.425,2.825) -2.425,2.5 ccw(c-2.425,2.825) -2.1,2.825 -2.1,3.025 ccw(c-2.425,3.025) -2.425,3.35 ccw(c-2.425,3.025) -2.75,3.025 -2.75,2.825 ; 2.1,2.825 ccw(c2.425,2.825) 2.425,2.5 ccw(c2.425,2.825) 2.75,2.825 2.75,3.025 ccw(c2.425,3.025) 2.425,3.35 ccw(c2.425,3.025) 2.1,3.025 2.1,2.825 ; 3.1,-0.525 ccw(c3.4,-0.525) 3.4,-0.825 3.625,-0.825 ccw(c3.625,-0.525) 3.925,-0.525 3.925,0.375 ccw(c3.625,0.375) 3.625,0.675 3.4,0.675 ccw(c3.4,0.375) 3.1,0.375 3.1,-0.525
Mechanical 13:
  circle w0.2: c-1.25,4.14 r0.1
  circle w0.2: c-1.25,4.14 r0.1
3D body "Micro_USB.STEP": height 2.71, standoff -0.79, extent -4.029,-2.752 4.064,3.048

## OS102011MA1QN1 [mm]
pads (5):
  rect 1.308x1.308 hole 0.8: 1(-2,0)
  round 1.308 hole 0.8: 2(0,0) 3(2,0)
  round 1.5 hole 1.5 unplated: ""(-4.1,0) ""(4.1,0)
Top Overlay:
  circle w0.2: c-4.8,-1.5 r0.1
  lines w0.127: -4.3,-1.3 -4.3,-2.15 4.3,-2.15 4.3,-1.4 ; -4.3,1.4 -4.3,2.15 4.3,2.15 4.3,1.4
Mechanical 13:
  circle w0.2: c-2.1,0.05 r0.1
  lines w0.127: -4.3,-2.15 4.3,-2.15 4.3,2.15 -4.3,2.15 -4.3,-2.15
Mechanical 15:
  lines w0.05: -5.25,-1.25 -4.55,-1.25 -4.55,-2.4 4.55,-2.4 4.55,-1.25 5.25,-1.25 5.25,1.25 4.55,1.25 4.55,2.4 -4.55,2.4 -4.55,1.25 -5.25,1.25 -5.25,-1.25
3D body "OS102011MA1QN1.stp": height 4.71, standoff -2.89, extent -4.3,-6.2 4.3,2.2

## PIN2 [mm] "2x1 Header 0.1mm"
pads (2):
  rect 1.5x1.5 hole 0.9: 1(0,0)
  round 1.5 hole 0.9: 2(2.54,0)
Top Overlay:
  lines w0.2: -1.4,-1.4 -1.4,1.4 3.94,1.4 3.94,-1.4 -1.4,-1.4
3D body "Header_100mil_2way.step": height 10.11, standoff -1.49, extent -1.27,-1.27 3.81,1.27

## PIN3 [mm] "2x1 Header 0.1mm"
pads (3):
  rect 1.5x1.5 hole 0.9: 1(0,0)
  round 1.5 hole 0.9: 2(2.54,0) 3(5.08,0)
Top Overlay:
  lines w0.2: -1.4,-1.4 -1.4,1.4 6.477,1.4 6.477,-1.4 -1.4,-1.4
3D body "Header_100mil_3way.step": height 10.11, standoff -1.49, extent -1.27,-1.27 6.35,1.27

## PIN3 - TIGHT [mm] "2x1 Header 0.1mm"
pads (3):
  round 1.5 hole 0.9: 1(0,0) 2(1.8,0) 3(3.6,0)

## PIN4 [mm] "4x1 Header 0.1mm"
pads (4):
  rect 1.5x1.5 hole 0.9: 1(0,0)
  round 1.5 hole 0.9: 2(2.54,0) 3(5.08,0) 4(7.62,0)
Top Overlay:
  lines w0.2: -1.4,-1.4 9.271,-1.4 9.271,1.4 -1.4,1.4 -1.4,-1.4
3D body "Header_100mil_4way.step": height 10.11, standoff -1.49, extent -1.27,-1.27 8.89,1.27

## PIN10 [mm] "4x1 Header 0.1mm"
pads (10):
  rect 1.5x1.5 hole 0.9: 1(0,0)
  round 1.5 hole 0.9: 2(2.54,0) 3(5.08,0) 4(7.62,0) 5(10.16,0) 6(12.7,0) 7(15.24,0) 8(17.78,0) 9(20.32,0) 10(22.86,0)
Top Overlay:
  lines w0.2: -1.4,-1.4 -1.4,1.4 24.2,1.4 24.2,-1.4 -1.4,-1.4

## SMD-22 [mm] "LED Light Pipe Connector - VCC"
pads (2):
  round 2.1 hole 2: 1(-4,0) 1(4,0)
3D body "SMD_22.STEP": height 8.71, standoff -2.99, extent -5.55,-3.5 5.55,3.5

## SNAPBEE_DF59-2S-2V [mm] "CONN SSL RCPT 2POS 2MM SOLDER"
pads (4):
  rect 1.1x1.35 smd: 1(-1,-3.075)
  rect 1.1x1.4 smd: 2(1,-3.075)
  rect 0.65x1.4 smd: S1(-3.31,3.075) S2(3.31,3.075)
Top Overlay:
  lines w0.254: -3.302,2.032 -3.302,-3.429 -1.905,-3.429 ; 1.905,-3.429 3.302,-3.429 3.302,2.032
3D body "DF59-2S-2V.stp": height 2.31, standoff 0.01, extent -3.6,-3.556 3.6,4.394